# Altium footprint library SMD ceramic CAP.PcbLib: 9 footprints
Each footprint in its own frame and in the unit in brackets; x right, y up, seen from the top. Pads: shape width x height; smd on the part's side, far side on the other; paste and mask are expansions set on the pad; w line width, h text height; cw(c..) or ccw(c..) is an arc to the next point about the centre after c.
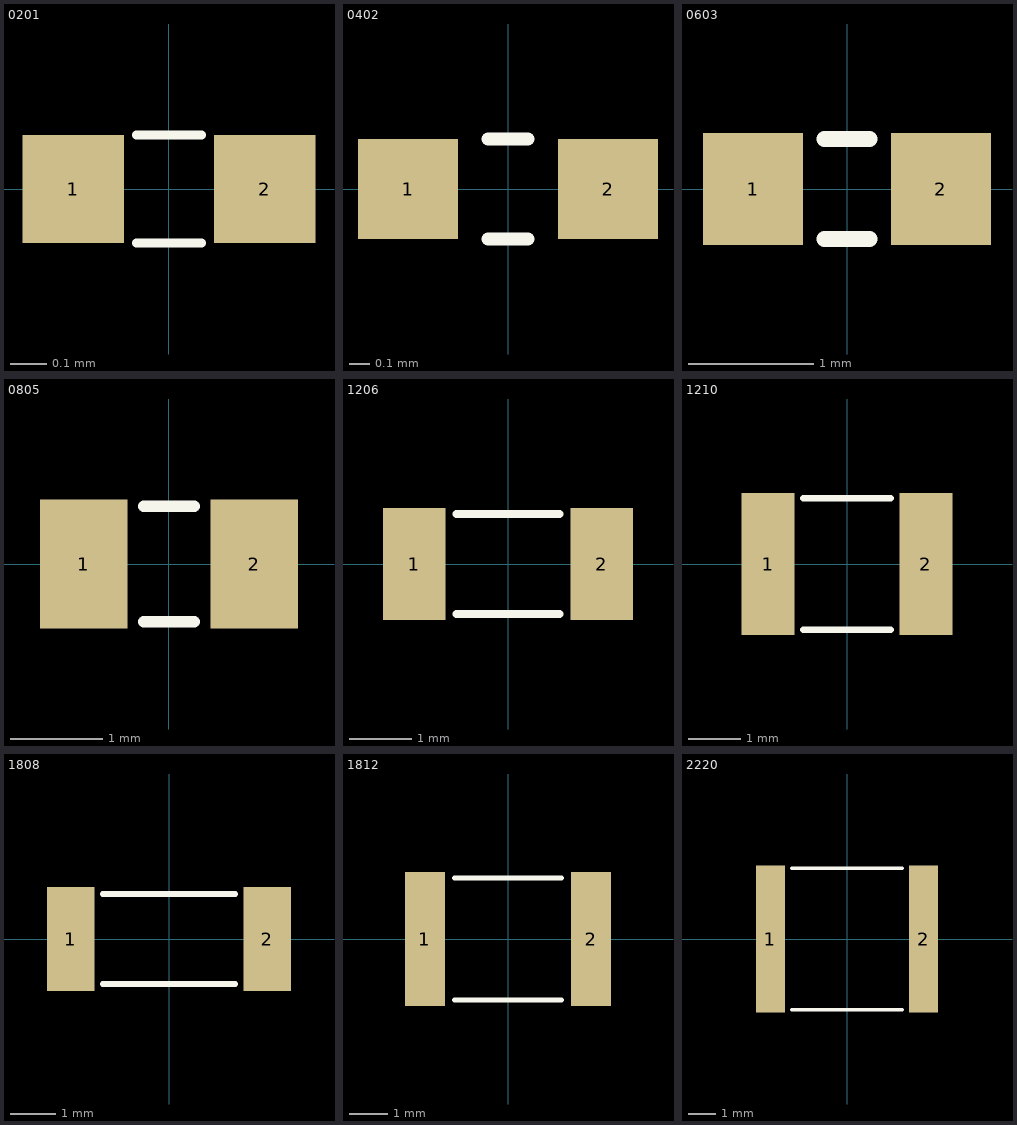
[diagram p0: the footprints below, top view; thin cyan lines are the x and y axes]

## 0201 [mm]
pads (2):
  rect 0.28x0.3 smd mask+0.02: 1(-0.265,0) 2(0.265,0)
Top Overlay:
  lines w0.025: -0.09,-0.15 0.09,-0.15 ; -0.09,0.15 0.09,0.15
3D body "C0201_045.step": height 0.45, standoff 0, extent -0.3,-0.15 0.3,0.15

## 0402 [mm]
pads (2):
  rect 0.5x0.5 smd: 1(-0.5,0) 2(0.5,0)
Top Overlay:
  lines w0.064: -0.1,-0.25 0.1,-0.25 ; -0.1,0.25 0.1,0.25
3D body "C0402_065.step": height 0.65, standoff 0, extent -0.5,-0.25 0.5,0.25

## 0603 [mm]
pads (2):
  rect 0.8x0.9 smd: 1(-0.75,0) 2(0.75,0)
Top Overlay:
  lines w0.127: -0.18,-0.4 0.18,-0.4 ; -0.18,0.4 0.18,0.4
3D body "C0603_090.step": height 0.9, standoff 0, extent -0.8,-0.4 0.8,0.4

## 0805 [mm]
pads (2):
  rect 0.95x1.4 smd: 1(-0.925,0) 2(0.925,0)
Top Overlay:
  lines w0.127: -0.275,-0.625 0.275,-0.625 ; -0.275,0.625 0.275,0.625
3D body "C0805_135.step": height 1.35, standoff 0, extent -1,-0.625 1,0.625

## 1206 [mm]
pads (2):
  rect 1x1.8 smd: 1(-1.5,0) 2(1.5,0)
Top Overlay:
  lines w0.127: -0.825,-0.8 0.825,-0.8 ; -0.825,0.8 0.825,0.8
3D body "C1206_180.step": height 1.8, standoff 0, extent -1.6,-0.8 1.6,0.8

## 1210 [mm]
pads (2):
  rect 1x2.7 smd: 1(-1.5,0) 2(1.5,0)
Top Overlay:
  lines w0.127: -0.825,-1.25 0.825,-1.25 ; -0.825,1.25 0.825,1.25
3D body "C1210_270.step": height 2.7, standoff 0, extent -1.6,-1.25 1.6,1.25

## 1808 [mm]
pads (2):
  rect 1.05x2.3 smd: 1(-2.175,0) 2(2.175,0)
Top Overlay:
  lines w0.127: -1.47,-1 1.47,-1 ; -1.47,1 1.47,1
3D body "Ceramic_Capacitor_1808_h79mil.step": height 2.01, standoff 0.01, extent -2.25,-1 2.25,1

## 1812 [mm]
pads (2):
  rect 1.05x3.5 smd: 1(-2.175,0) 2(2.175,0)
Top Overlay:
  lines w0.127: -1.4,-1.6 1.4,-1.6 ; -1.4,1.6 1.4,1.6
3D body "Ceramic_Capacitor_1812_h111mil.step": height 2.81, standoff 0.01, extent -2.25,-1.6 2.25,1.6

## 2220 [mm]
pads (2):
  rect 1.05x5.3 smd: 1(-2.775,0) 2(2.775,0)
Top Overlay:
  lines w0.127: -2,-2.55 2,-2.55 ; -2,2.55 2,2.55
3D body "CAP 2220 PPS H4,5mm.stp": height 4.5, standoff 0, extent -2.85,-2.55 2.85,2.55